# Altium footprint library SMD Active.PcbLib: 72 footprints (part 4 of 8)
Each footprint in its own frame and in the unit in brackets; x right, y up, seen from the top. Pads: shape width x height; smd on the part's side, far side on the other; paste and mask are expansions set on the pad; w line width, h text height; cw(c..) or ccw(c..) is an arc to the next point about the centre after c.
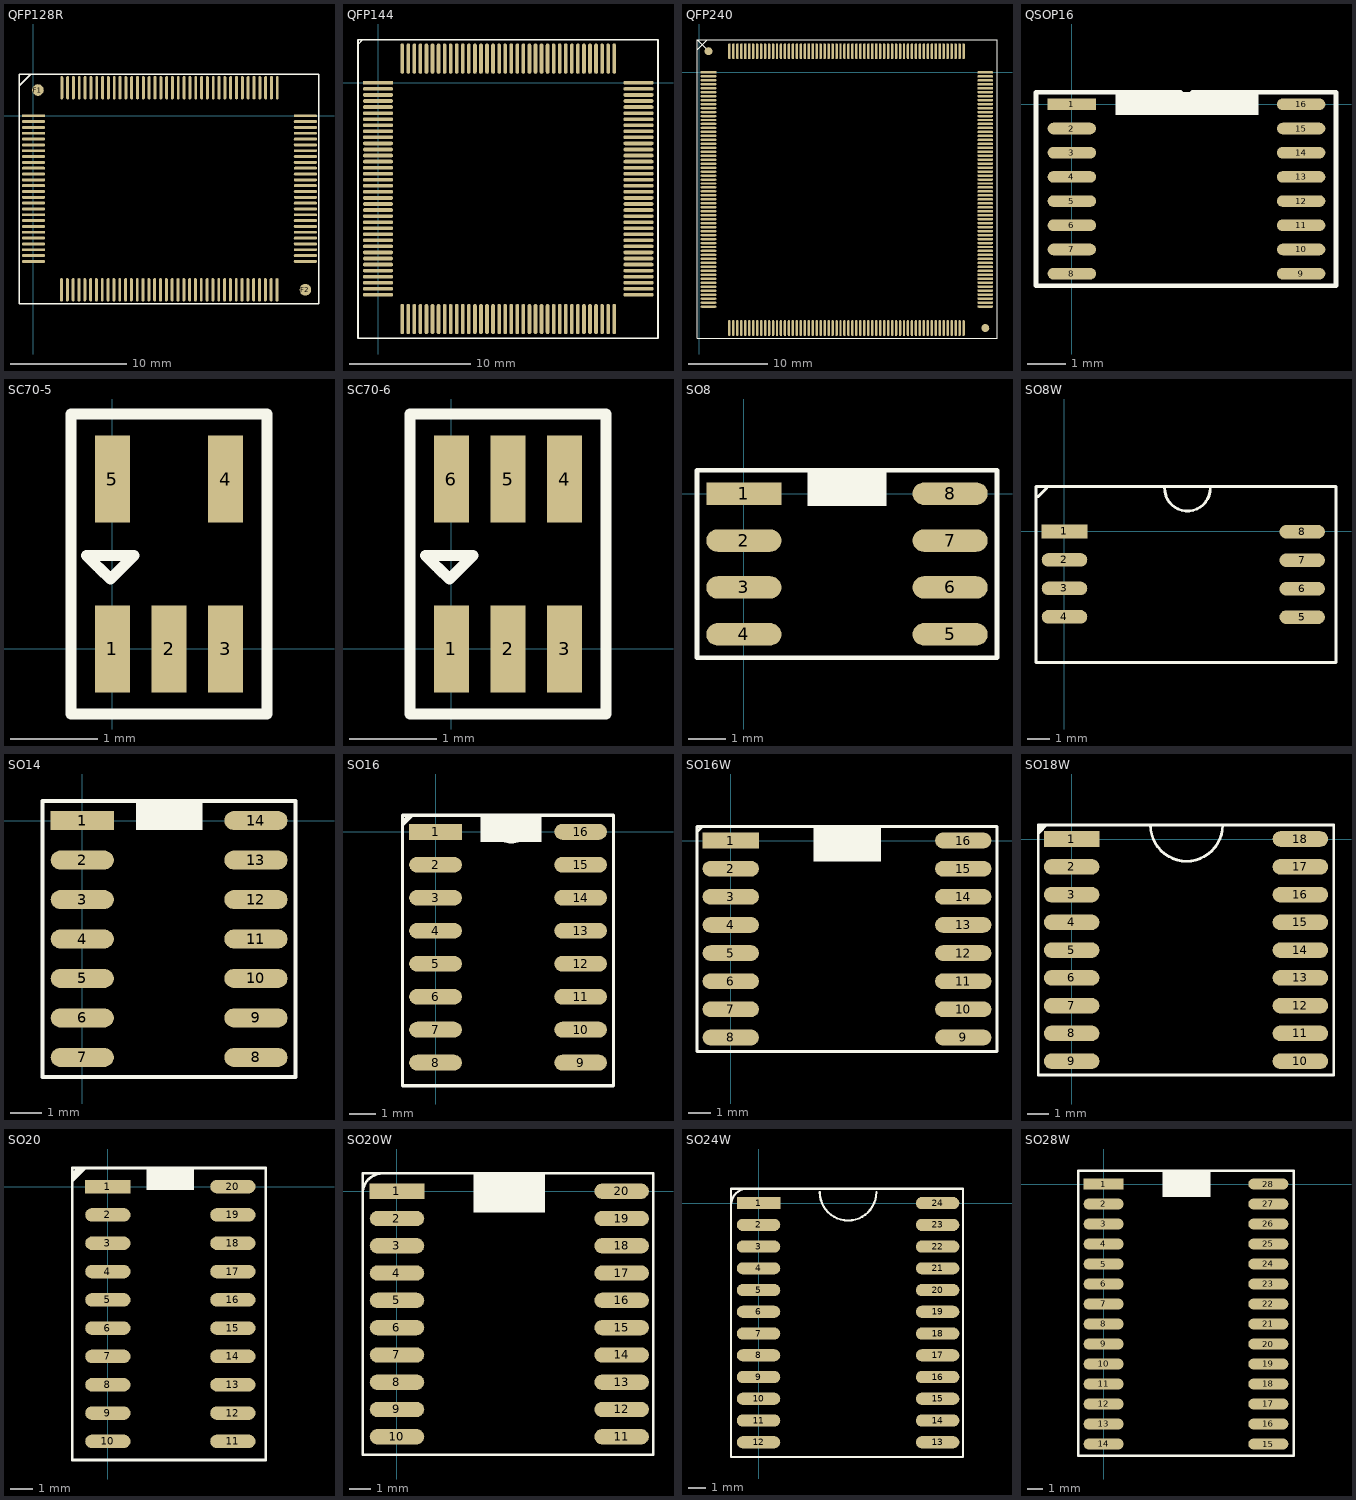
[diagram p3: the footprints below, top view; thin cyan lines are the x and y axes]

## QFP128R [mm]
pads (130):
  rect 2x0.25 smd: 1(0,0)
  oval 2x0.25 smd: 2(0,-0.5) 3(0,-1) 4(0,-1.5) 5(0,-2) 6(0,-2.5) 7(0,-3) 8(0,-3.5) 9(0,-4) 10(0,-4.5) 11(0,-5) 12(0,-5.5) 13(0,-6) 14(0,-6.5) 15(0,-7) 16(0,-7.5) 17(0,-8) 18(0,-8.5) 19(0,-9) 20(0,-9.5) 21(0,-10) 22(0,-10.5) 23(0,-11) 24(0,-11.5) 25(0,-12) 26(0,-12.5) 65(23.343,-12.5) 66(23.343,-12) 67(23.343,-11.5) 68(23.343,-11) 69(23.343,-10.5) 70(23.343,-10) 71(23.343,-9.5) 72(23.343,-9) 73(23.343,-8.5) 74(23.343,-8) 75(23.343,-7.5) 76(23.343,-7) 77(23.343,-6.5) 78(23.343,-6) 79(23.343,-5.5) 80(23.343,-5) 81(23.343,-4.5) 82(23.343,-4) 83(23.343,-3.5) 84(23.343,-3) 85(23.343,-2.5) 86(23.343,-2) 87(23.343,-1.5) 88(23.343,-1) 89(23.343,-0.5) 90(23.343,0)
  oval 0.25x2 smd: 27(2.404,-14.938) 28(2.904,-14.938) 29(3.404,-14.938) 30(3.904,-14.938) 31(4.404,-14.938) 32(4.904,-14.938) 33(5.404,-14.938) 34(5.904,-14.938) 35(6.404,-14.938) 36(6.904,-14.938) 37(7.404,-14.938) 38(7.904,-14.938) 39(8.404,-14.938) 40(8.904,-14.938) 41(9.404,-14.938) 42(9.904,-14.938) 43(10.404,-14.938) 44(10.904,-14.938) 45(11.404,-14.938) 46(11.904,-14.938) 47(12.404,-14.938) 48(12.904,-14.938) 49(13.404,-14.938) 50(13.904,-14.938) 51(14.404,-14.938) 52(14.904,-14.938) 53(15.404,-14.938) 54(15.904,-14.938) 55(16.404,-14.938) 56(16.904,-14.938) 57(17.404,-14.938) 58(17.904,-14.938) 59(18.404,-14.938) 60(18.904,-14.938) 61(19.404,-14.938) 62(19.904,-14.938) 63(20.404,-14.938) 64(20.904,-14.938) 91(20.93,2.41) 92(20.43,2.41) 93(19.93,2.41) 94(19.43,2.41) 95(18.93,2.41) 96(18.43,2.41) 97(17.93,2.41) 98(17.43,2.41) 99(16.93,2.41) 100(16.43,2.41) 101(15.93,2.41) 102(15.43,2.41) 103(14.93,2.41) 104(14.43,2.41) 105(13.93,2.41) 106(13.43,2.41) 107(12.93,2.41) 108(12.43,2.41) 109(11.93,2.41) 110(11.43,2.41) 111(10.93,2.41) 112(10.43,2.41) 113(9.93,2.41) 114(9.43,2.41) 115(8.93,2.41) 116(8.43,2.41) 117(7.93,2.41) 118(7.43,2.41) 119(6.93,2.41) 120(6.43,2.41) 121(5.93,2.41) 122(5.43,2.41) 123(4.93,2.41) 124(4.43,2.41) 125(3.93,2.41) 126(3.43,2.41) 127(2.93,2.41) 128(2.43,2.41)
  round 1 smd: F1(0.381,2.21) F2(23.343,-14.935)
Top Overlay:
  lines w0.127: -1.245,2.565 -0.229,3.581 ; -1.245,-16.154 -1.245,3.581 24.511,3.581 24.511,-16.154 -1.245,-16.154

## QFP144 [mm]
pads (144):
  rect 2.5x0.305 smd: 1(0,0)
  oval 2.5x0.305 smd: 2(0,-0.5) 3(0,-1) 4(0,-1.5) 5(0,-2) 6(0,-2.5) 7(0,-3) 8(0,-3.5) 9(0,-4) 10(0,-4.5) 11(0,-5) 12(0,-5.5) 13(0,-6) 14(0,-6.5) 15(0,-7) 16(0,-7.5) 17(0,-8) 18(0,-8.5) 19(0,-9) 20(0,-9.5) 21(0,-10) 22(0,-10.5) 23(0,-11) 24(0,-11.5) 25(0,-12) 26(0,-12.5) 27(0,-13) 28(0,-13.5) 29(0,-14) 30(0,-14.5) 31(0,-15) 32(0,-15.5) 33(0,-16) 34(0,-16.5) 35(0,-17) 36(0,-17.5) 73(21.5,-17.5) 74(21.5,-17) 75(21.5,-16.5) 76(21.5,-16) 77(21.5,-15.5) 78(21.5,-15) 79(21.5,-14.5) 80(21.5,-14) 81(21.5,-13.5) 82(21.5,-13) 83(21.5,-12.5) 84(21.5,-12) 85(21.5,-11.5) 86(21.5,-11) 87(21.5,-10.5) 88(21.5,-10) 89(21.5,-9.5) 90(21.5,-9) 91(21.5,-8.5) 92(21.5,-8) 93(21.5,-7.5) 94(21.5,-7) 95(21.5,-6.5) 96(21.5,-6) 97(21.5,-5.5) 98(21.5,-5) 99(21.5,-4.5) 100(21.5,-4) 101(21.5,-3.5) 102(21.5,-3) 103(21.5,-2.5) 104(21.5,-2) 105(21.5,-1.5) 106(21.5,-1) 107(21.5,-0.5) 108(21.5,0)
  oval 0.305x2.5 smd: 37(2,-19.5) 38(2.5,-19.5) 39(3,-19.5) 40(3.5,-19.5) 41(4,-19.5) 42(4.5,-19.5) 43(5,-19.5) 44(5.5,-19.5) 45(6,-19.5) 46(6.5,-19.5) 47(7,-19.5) 48(7.5,-19.5) 49(8,-19.5) 50(8.5,-19.5) 51(9,-19.5) 52(9.5,-19.5) 53(10,-19.5) 54(10.5,-19.5) 55(11,-19.5) 56(11.5,-19.5) 57(12,-19.5) 58(12.5,-19.5) 59(13,-19.5) 60(13.5,-19.5) 61(14,-19.5) 62(14.5,-19.5) 63(15,-19.5) 64(15.5,-19.5) 65(16,-19.5) 66(16.5,-19.5) 67(17,-19.5) 68(17.5,-19.5) 69(18,-19.5) 70(18.5,-19.5) 71(19,-19.5) 72(19.5,-19.5) 109(19.5,2) 110(19,2) 111(18.5,2) 112(18,2) 113(17.5,2) 114(17,2) 115(16.5,2) 116(16,2) 117(15.5,2) 118(15,2) 119(14.5,2) 120(14,2) 121(13.5,2) 122(13,2) 123(12.5,2) 124(12,2) 125(11.5,2) 126(11,2) 127(10.5,2) 128(10,2) 129(9.5,2) 130(9,2) 131(8.5,2) 132(8,2) 133(7.5,2) 134(7,2) 135(6.5,2) 136(6,2) 137(5.5,2) 138(5,2) 139(4.5,2) 140(4,2) 141(3.5,2) 142(3,2) 143(2.5,2) 144(2,2)
Top Overlay:
  lines w0.127: -1.651,3.048 -1.651,3.175 ; -1.651,3.175 -1.651,3.556 ; -1.651,3.175 -1.27,3.556 ; -1.651,3.556 23.114,3.556 23.114,-21.082 -1.651,-21.082 -1.651,3.556 ; -1.651,3.556 -1.27,3.556 ; -1.651,3.556 -1.27,3.556

## QFP240 [mm]
pads (242):
  rect 2x0.31 smd: 1(1.168,0)
  oval 2x0.31 smd: 2(1.168,-0.5) 3(1.168,-1) 4(1.168,-1.5) 5(1.168,-2) 6(1.168,-2.5) 7(1.168,-3) 8(1.168,-3.5) 9(1.168,-4) 10(1.168,-4.5) 11(1.168,-5) 12(1.168,-5.5) 13(1.168,-6) 14(1.168,-6.5) 15(1.168,-7) 16(1.168,-7.5) 17(1.168,-8) 18(1.168,-8.5) 19(1.168,-9) 20(1.168,-9.5) 21(1.168,-10) 22(1.168,-10.5) 23(1.168,-11) 24(1.168,-11.5) 25(1.168,-12) 26(1.168,-12.5) 27(1.168,-13) 28(1.168,-13.5) 29(1.168,-14) 30(1.168,-14.5) 31(1.168,-15) 32(1.168,-15.5) 33(1.168,-16) 34(1.168,-16.5) 35(1.168,-17) 36(1.168,-17.5) 37(1.168,-18) 38(1.168,-18.5) 39(1.168,-19) 40(1.168,-19.5) 41(1.168,-20) 42(1.168,-20.5) 43(1.168,-21) 44(1.168,-21.5) 45(1.168,-22) 46(1.168,-22.5) 47(1.168,-23) 48(1.168,-23.5) 49(1.168,-24) 50(1.168,-24.5) 51(1.168,-25) 52(1.168,-25.5) 53(1.168,-26) 54(1.168,-26.5) 55(1.168,-27) 56(1.168,-27.5) 57(1.168,-28) 58(1.168,-28.5) 59(1.168,-29) 60(1.168,-29.5) 121(36.033,-29.5) 122(36.033,-29) 123(36.033,-28.5) 124(36.033,-28) 125(36.033,-27.5) 126(36.033,-27) 127(36.033,-26.5) 128(36.033,-26) 129(36.033,-25.5) 130(36.033,-25) 131(36.033,-24.5) 132(36.033,-24) 133(36.033,-23.5) 134(36.033,-23) 135(36.033,-22.5) 136(36.033,-22) 137(36.033,-21.5) 138(36.033,-21) 139(36.033,-20.5) 140(36.033,-20) 141(36.033,-19.5) 142(36.033,-19) 143(36.033,-18.5) 144(36.033,-18) 145(36.033,-17.5) 146(36.033,-17) 147(36.033,-16.5) 148(36.033,-16) 149(36.033,-15.5) 150(36.033,-15) 151(36.033,-14.5) 152(36.033,-14) 153(36.033,-13.5) 154(36.033,-13) 155(36.033,-12.5) 156(36.033,-12) 157(36.033,-11.5) 158(36.033,-11) 159(36.033,-10.5) 160(36.033,-10) 161(36.033,-9.5) 162(36.033,-9) 163(36.033,-8.5) 164(36.033,-8) 165(36.033,-7.5) 166(36.033,-7) 167(36.033,-6.5) 168(36.033,-6) 169(36.033,-5.5) 170(36.033,-5) 171(36.033,-4.5) 172(36.033,-4) 173(36.033,-3.5) 174(36.033,-3) 175(36.033,-2.5) 176(36.033,-2) 177(36.033,-1.5) 178(36.033,-1) 179(36.033,-0.5) 180(36.033,0)
  oval 0.31x2 smd: 61(3.8,-32.208) 62(4.3,-32.208) 63(4.8,-32.208) 64(5.3,-32.208) 65(5.8,-32.208) 66(6.3,-32.208) 67(6.8,-32.208) 68(7.3,-32.208) 69(7.8,-32.208) 70(8.3,-32.208) 71(8.8,-32.208) 72(9.3,-32.208) 73(9.8,-32.208) 74(10.3,-32.208) 75(10.8,-32.208) 76(11.3,-32.208) 77(11.8,-32.208) 78(12.3,-32.208) 79(12.8,-32.208) 80(13.3,-32.208) 81(13.8,-32.208) 82(14.3,-32.208) 83(14.8,-32.208) 84(15.3,-32.208) 85(15.8,-32.208) 86(16.3,-32.208) 87(16.8,-32.208) 88(17.3,-32.208) 89(17.8,-32.208) 90(18.3,-32.208) 91(18.8,-32.208) 92(19.3,-32.208) 93(19.8,-32.208) 94(20.3,-32.208) 95(20.8,-32.208) 96(21.3,-32.208) 97(21.8,-32.208) 98(22.3,-32.208) 99(22.8,-32.208) 100(23.3,-32.208) 101(23.8,-32.208) 102(24.3,-32.208) 103(24.8,-32.208) 104(25.3,-32.208) 105(25.8,-32.208) 106(26.3,-32.208) 107(26.8,-32.208) 108(27.3,-32.208) 109(27.8,-32.208) 110(28.3,-32.208) 111(28.8,-32.208) 112(29.3,-32.208) 113(29.8,-32.208) 114(30.3,-32.208) 115(30.8,-32.208) 116(31.3,-32.208) 117(31.8,-32.208) 118(32.3,-32.208) 119(32.8,-32.208) 120(33.3,-32.208) 181(33.3,2.657) 182(32.8,2.657) 183(32.3,2.657) 184(31.8,2.657) 185(31.3,2.657) 186(30.8,2.657) 187(30.3,2.657) 188(29.8,2.657) 189(29.3,2.657) 190(28.8,2.657) 191(28.3,2.657) 192(27.8,2.657) 193(27.3,2.657) 194(26.8,2.657) 195(26.3,2.657) 196(25.8,2.657) 197(25.3,2.657) 198(24.8,2.657) 199(24.3,2.657) 200(23.8,2.657) 201(23.3,2.657) 202(22.8,2.657) 203(22.3,2.657) 204(21.8,2.657) 205(21.3,2.657) 206(20.8,2.657) 207(20.3,2.657) 208(19.8,2.657) 209(19.3,2.657) 210(18.8,2.657) 211(18.3,2.657) 212(17.8,2.657) 213(17.3,2.657) 214(16.8,2.657) 215(16.3,2.657) 216(15.8,2.657) 217(15.3,2.657) 218(14.8,2.657) 219(14.3,2.657) 220(13.8,2.657) 221(13.3,2.657) 222(12.8,2.657) 223(12.3,2.657) 224(11.8,2.657) 225(11.3,2.657) 226(10.8,2.657) 227(10.3,2.657) 228(9.8,2.657) 229(9.3,2.657) 230(8.8,2.657) 231(8.3,2.657) 232(7.8,2.657) 233(7.3,2.657) 234(6.8,2.657) 235(6.3,2.657) 236(5.8,2.657) 237(5.3,2.657) 238(4.8,2.657) 239(4.3,2.657) 240(3.8,2.657)
  round 1 smd: F1(1.168,2.667) F2(36.043,-32.207)
Top Overlay:
  lines w0.127: -0.279,2.286 -0.279,2.819 1.016,4.115 ; 1.422,2.413 -0.279,4.115 ; -0.279,4.115 -0.279,-33.503 37.516,-33.503 37.516,4.115 -0.279,4.115

## QSOP16 [mil]
pads (16):
  rect 50x12 smd: 1(0,0)
  oval 50x12 smd: 2(0,-25) 3(0,-50) 4(0,-75) 5(0,-100) 6(0,-125) 7(0,-150) 8(0,-175) 9(237,-175) 10(237,-150) 11(237,-125) 12(237,-100) 13(237,-75) 14(237,-50) 15(237,-25) 16(237,0)
Top Overlay:
  rectangle: 45,-11 193,12.5
  lines w5: 112.25,12.5 -37,12.5 -37,-187.5 273,-187.5 273,12.5 124.75,12.5
3D body: height 12, standoff 0, extent 225,-7 247,5
3D body: height 25, standoff 12, extent 201,-7 233.5,5
3D body: height 12, standoff 0, extent 225,-32 247,-20
3D body: height 25, standoff 12, extent 201,-32 233.5,-20
3D body: height 12, standoff 0, extent 225,-57 247,-45
3D body: height 25, standoff 12, extent 201,-57 233.5,-45
3D body: height 12, standoff 0, extent 225,-82 247,-70
3D body: height 25, standoff 12, extent 201,-82 233.5,-70
3D body: height 12, standoff 0, extent 225,-107 247,-95
3D body: height 25, standoff 12, extent 201,-107 233.5,-95
3D body: height 12, standoff 0, extent 225,-132 247,-120
3D body: height 25, standoff 12, extent 201,-132 233.5,-120
3D body: height 12, standoff 0, extent 225,-157 247,-145
3D body: height 25, standoff 12, extent 201,-157 233.5,-145
3D body: height 12, standoff 0, extent 225,-182 247,-170
3D body: height 25, standoff 12, extent 201,-182 233.5,-170
3D body: height 12, standoff 0, extent -12,-182 10,-170
3D body: height 25, standoff 12, extent 1.5,-182 34,-170
3D body: height 12, standoff 0, extent -12,-157 10,-145
3D body: height 25, standoff 12, extent 1.5,-157 34,-145
3D body: height 12, standoff 0, extent -12,-132 10,-120
3D body: height 25, standoff 12, extent 1.5,-132 34,-120
3D body: height 12, standoff 0, extent -12,-107 10,-95
3D body: height 25, standoff 12, extent 1.5,-107 34,-95
3D body: height 12, standoff 0, extent -12,-82 10,-70
3D body: height 25, standoff 12, extent 1.5,-82 34,-70
3D body: height 12, standoff 0, extent -12,-57 10,-45
3D body: height 25, standoff 12, extent 1.5,-57 34,-45
3D body: height 12, standoff 0, extent -12,-32 10,-20
3D body: height 25, standoff 12, extent 1.5,-32 34,-20
3D body: height 41, standoff 40, extent 78,-15 156,10
3D body: height 25, standoff 12, extent 1.5,-7 34,5
3D body: height 12, standoff 0, extent -12,-7 10,5
3D body: height 40, standoff 0, extent 23.04,-189 211,12

## SC70-5 [mm]
pads (5):
  rect 0.4x1 smd: 1(0,0) 2(0.65,0) 3(1.3,0) 4(1.3,1.95) 5(0,1.95)
Top Overlay:
  lines w0.127: -0.475,-0.175 -0.475,0.975 ; -0.475,2.125 -0.475,0.975 ; -0.15,0.925 -0.025,0.8 ; 1.775,-0.175 1.775,0.975 ; 1.775,2.125 1.775,0.975 ; -0.475,0.975 -0.475,-0.75 0.65,-0.75 1.775,-0.75 1.775,0.975 ; -0.475,0.975 -0.475,2.7 0.65,2.7 1.775,2.7 1.775,0.975 ; -0.025,0.8 -0.025,0.8 ; -0.025,0.8 0.25,1.075 ; -0.025,0.8 -0.3,1.075 0.25,1.075 ; 0.25,1.075 0.25,1.075
3D body: height 1.04, standoff 1.02, extent -0.126,0.584 0.126,0.838
3D body: height 1.02, standoff 0.13, extent -0.483,0.432 1.778,1.524
3D body: height 0.25, standoff 0, extent -0.152,0 0.152,0.254
3D body: height 0.76, standoff 0, extent -0.152,0.203 0.152,0.305
3D body: height 0.76, standoff 0.51, extent -0.152,0.305 0.152,0.432
3D body: height 0.76, standoff 0.51, extent 0.508,0.305 0.813,0.432
3D body: height 0.76, standoff 0, extent 0.508,0.203 0.813,0.305
3D body: height 0.25, standoff 0, extent 0.508,0 0.813,0.254
3D body: height 0.76, standoff 0.51, extent 1.143,0.305 1.448,0.432
3D body: height 0.76, standoff 0, extent 1.143,0.203 1.448,0.305
3D body: height 0.25, standoff 0, extent 1.143,0 1.448,0.254
3D body: height 0.25, standoff 0, extent -0.152,1.702 0.152,1.956
3D body: height 0.76, standoff 0, extent -0.152,1.651 0.152,1.753
3D body: height 0.76, standoff 0.51, extent -0.152,1.524 0.152,1.651
3D body: height 0.76, standoff 0.51, extent 1.143,1.524 1.448,1.651
3D body: height 0.76, standoff 0, extent 1.143,1.651 1.448,1.753
3D body: height 0.25, standoff 0, extent 1.143,1.702 1.448,1.956

## SC70-6 [mm]
pads (6):
  rect 0.4x1 smd: 1(0,0) 2(0.65,0) 3(1.3,0) 4(1.3,1.95) 5(0.65,1.95) 6(0,1.95)
Top Overlay:
  lines w0.127: -0.475,-0.175 -0.475,0.975 ; -0.475,2.125 -0.475,0.975 ; -0.15,0.925 -0.025,0.8 ; 1.775,-0.175 1.775,0.975 ; 1.775,2.125 1.775,0.975 ; -0.475,0.975 -0.475,-0.75 0.65,-0.75 1.775,-0.75 1.775,0.975 ; -0.475,0.975 -0.475,2.7 0.65,2.7 1.775,2.7 1.775,0.975 ; -0.025,0.8 -0.025,0.8 ; -0.025,0.8 0.25,1.075 ; -0.025,0.8 -0.3,1.075 0.25,1.075 ; 0.25,1.075 0.25,1.075
3D body: height 1.04, standoff 1.02, extent -0.126,0.584 0.126,0.838
3D body: height 1.02, standoff 0.13, extent -0.483,0.432 1.778,1.524
3D body: height 0.25, standoff 0, extent -0.152,0 0.152,0.254
3D body: height 0.76, standoff 0, extent -0.152,0.203 0.152,0.305
3D body: height 0.76, standoff 0.51, extent -0.152,0.305 0.152,0.432
3D body: height 0.76, standoff 0.51, extent 0.508,0.305 0.813,0.432
3D body: height 0.76, standoff 0, extent 0.508,0.203 0.813,0.305
3D body: height 0.25, standoff 0, extent 0.508,0 0.813,0.254
3D body: height 0.76, standoff 0.51, extent 1.143,0.305 1.448,0.432
3D body: height 0.76, standoff 0, extent 1.143,0.203 1.448,0.305
3D body: height 0.25, standoff 0, extent 1.143,0 1.448,0.254
3D body: height 0.25, standoff 0, extent -0.152,1.702 0.152,1.956
3D body: height 0.76, standoff 0, extent -0.152,1.651 0.152,1.753
3D body: height 0.76, standoff 0.51, extent -0.152,1.524 0.152,1.651
3D body: height 0.76, standoff 0.51, extent 1.143,1.524 1.448,1.651
3D body: height 0.76, standoff 0, extent 1.143,1.651 1.448,1.753
3D body: height 0.25, standoff 0, extent 1.143,1.702 1.448,1.956
3D body: height 0.25, standoff 0, extent 0.483,1.702 0.787,1.956
3D body: height 0.76, standoff 0, extent 0.483,1.651 0.787,1.753
3D body: height 0.76, standoff 0.51, extent 0.483,1.524 0.787,1.651

## SO8 [mil]
pads (8):
  rect 80x24 smd: 1(0,0)
  oval 80x24 smd: 2(0,-50) 3(0,-100) 4(0,-150) 5(220,-150) 6(220,-100) 7(220,-50) 8(220,0)
Top Overlay:
  rectangle: 68,-13 152,25
  lines w5: -50,-175 270,-175 270,25 -50,25 -50,-175
3D body: height 57, standoff 0, extent -5,-171.5 222.49,21.5

## SO8W [mil]
pads (8):
  rect 80x24 smd: 1(0,0)
  oval 80x24 smd: 2(0,-50) 3(0,-100) 4(0,-150) 5(417.32,-150.59) 6(417.32,-100.59) 7(417.32,-50.59) 8(417.32,-0.59)
Top Overlay:
  lines w5: -46.5,60.79 -31.5,75.79 ; 175.91,75.79 ccw(c215.91,75.79) 255.91,75.79 ; -50,-230.2 476.69,-230.2 476.69,79.13 -50,79.13 -50,-230.2
3D body: height 20, standoff 0, extent -20,-158 7,-143
3D body: height 35, standoff 15, extent -6.5,-158 26,-143
3D body: height 20, standoff 0, extent -20,-108 7,-93
3D body: height 35, standoff 15, extent -6.5,-108 26,-93
3D body: height 20, standoff 0, extent -20,-58 7,-43
3D body: height 35, standoff 15, extent -6.5,-58 26,-43
3D body: height 35, standoff 15, extent -6.5,-8 26,7
3D body: height 20, standoff 0, extent -20,-8 7,7
3D body: height 60, standoff 10, extent 25,-228 392,77
3D body: height 20, standoff 0, extent 410,-158 437,-143
3D body: height 35, standoff 15, extent 391,-158 423.5,-143
3D body: height 35, standoff 15, extent 391,-108 423.5,-93
3D body: height 20, standoff 0, extent 410,-108 437,-93
3D body: height 35, standoff 15, extent 391,-58 423.5,-43
3D body: height 20, standoff 0, extent 410,-58 437,-43
3D body: height 35, standoff 15, extent 391,-8 423.5,7
3D body: height 20, standoff 0, extent 410,-8 437,7

## SO14 [mil]
pads (14):
  rect 80x24 smd: 1(0,0)
  oval 80x24 smd: 2(0,-50) 3(0,-100) 4(0,-150) 5(0,-200) 6(0,-250) 7(0,-300) 8(220,-300) 9(220,-250) 10(220,-200) 11(220,-150) 12(220,-100) 13(220,-50) 14(220,0)
Top Overlay:
  rectangle: 68,-12 152,26
  lines w5: -50.12,-325.02 269.88,-325.02 269.88,24.98 -50.12,24.98 -50.12,-325.02
3D body: height 60, standoff 10, extent 25,-325 195,25
3D body: height 20, standoff 0, extent -20,-8 7,7
3D body: height 35, standoff 15, extent -6.5,-8 26,7
3D body: height 35, standoff 15, extent -6.5,-58 26,-43
3D body: height 20, standoff 0, extent -20,-58 7,-43
3D body: height 35, standoff 15, extent -6.5,-108 26,-93
3D body: height 20, standoff 0, extent -20,-108 7,-93
3D body: height 35, standoff 15, extent -6.5,-158 26,-143
3D body: height 20, standoff 0, extent -20,-158 7,-143
3D body: height 35, standoff 15, extent 194,-157 226.5,-142
3D body: height 20, standoff 0, extent 213,-157 240,-142
3D body: height 35, standoff 15, extent 194,-107 226.5,-92
3D body: height 20, standoff 0, extent 213,-107 240,-92
3D body: height 35, standoff 15, extent 194,-57 226.5,-42
3D body: height 20, standoff 0, extent 213,-57 240,-42
3D body: height 35, standoff 15, extent 194,-7 226.5,8
3D body: height 20, standoff 0, extent 213,-7 240,8
3D body: height 20, standoff 0, extent -20,-208 7,-193
3D body: height 35, standoff 15, extent -6.5,-208 26,-193
3D body: height 35, standoff 15, extent -6.5,-258 26,-243
3D body: height 20, standoff 0, extent -20,-258 7,-243
3D body: height 35, standoff 15, extent -6.5,-308 26,-293
3D body: height 20, standoff 0, extent -20,-308 7,-293
3D body: height 35, standoff 15, extent 194,-307 226.5,-292
3D body: height 20, standoff 0, extent 213,-307 240,-292
3D body: height 35, standoff 15, extent 194,-257 226.5,-242
3D body: height 20, standoff 0, extent 213,-257 240,-242
3D body: height 35, standoff 15, extent 194,-207 226.5,-192
3D body: height 20, standoff 0, extent 213,-207 240,-192
3D body: height 61, standoff 60, extent 36,-9 55.92,10.96
3D body: height 61, standoff 60, extent 68,-12 152,22

## SO16 [mil]
pads (16):
  rect 80x24 smd: 1(0,0)
  oval 80x24 smd: 2(0,-50) 3(0,-100) 4(0,-150) 5(0,-200) 6(0,-250) 7(0,-300) 8(0,-350) 9(220,-350) 10(220,-300) 11(220,-250) 12(220,-200) 13(220,-150) 14(220,-100) 15(220,-50) 16(220,0)
Top Overlay:
  rectangle: 67.91,-15.75 160.43,24.98
  lines w5: -35.12,24.98 -50.12,9.98 -50.12,14.98 -40.12,24.98 -50.12,24.98 ; 74.88,24.98 ccw(c114.88,24.98) 154.88,24.98 ; -50.12,24.98 269.88,24.98 269.88,-385.02 -50.12,-385.02 -50.12,24.98
3D body: height 60, standoff 10, extent 25,-385 195,25
3D body: height 20, standoff 0, extent -20,-8 7,7
3D body: height 35, standoff 15, extent -6.5,-8 26,7
3D body: height 35, standoff 15, extent -6.5,-58 26,-43
3D body: height 20, standoff 0, extent -20,-58 7,-43
3D body: height 35, standoff 15, extent -6.5,-108 26,-93
3D body: height 20, standoff 0, extent -20,-108 7,-93
3D body: height 35, standoff 15, extent -6.5,-158 26,-143
3D body: height 20, standoff 0, extent -20,-158 7,-143
3D body: height 35, standoff 15, extent 194,-157 226.5,-142
3D body: height 20, standoff 0, extent 213,-157 240,-142
3D body: height 35, standoff 15, extent 194,-107 226.5,-92
3D body: height 20, standoff 0, extent 213,-107 240,-92
3D body: height 35, standoff 15, extent 194,-57 226.5,-42
3D body: height 20, standoff 0, extent 213,-57 240,-42
3D body: height 35, standoff 15, extent 194,-7 226.5,8
3D body: height 20, standoff 0, extent 213,-7 240,8
3D body: height 20, standoff 0, extent -20,-208 7,-193
3D body: height 35, standoff 15, extent -6.5,-208 26,-193
3D body: height 35, standoff 15, extent -6.5,-258 26,-243
3D body: height 20, standoff 0, extent -20,-258 7,-243
3D body: height 35, standoff 15, extent -6.5,-308 26,-293
3D body: height 20, standoff 0, extent -20,-308 7,-293
3D body: height 35, standoff 15, extent 194,-307 226.5,-292
3D body: height 20, standoff 0, extent 213,-307 240,-292
3D body: height 35, standoff 15, extent 194,-257 226.5,-242
3D body: height 20, standoff 0, extent 213,-257 240,-242
3D body: height 35, standoff 15, extent 194,-207 226.5,-192
3D body: height 20, standoff 0, extent 213,-207 240,-192
3D body: height 61, standoff 60, extent 36,-9 55.92,10.96
3D body: height 61, standoff 60, extent 68,-12 152,22
3D body: height 20, standoff 0, extent 213,-357 240,-342
3D body: height 35, standoff 15, extent 194,-357 226.5,-342
3D body: height 20, standoff 0, extent -20,-358 7,-343
3D body: height 35, standoff 15, extent -6.5,-358 26,-343

## SO16W [mil]
pads (16):
  rect 100x28 smd: 1(0,0)
  oval 100x28 smd: 2(0,-50) 3(0,-100) 4(0,-150) 5(0,-200) 6(0,-250) 7(0,-300) 8(0,-350) 9(413,-350) 10(413,-300) 11(413,-250) 12(413,-200) 13(413,-150) 14(413,-100) 15(413,-50) 16(413,0)
Top Overlay:
  rectangle: 146.65,-37.4 266.73,25
  lines w5: -60,15 -50,25 -60,25 ; -60,25 473,25 473,-375 -60,-375 -60,25
3D body: height 35, standoff 15, extent 18.5,-358 51,-343
3D body: height 20, standoff 0, extent 5,-358 32,-343
3D body: height 35, standoff 15, extent 361,-357 393.5,-342
3D body: height 20, standoff 0, extent 380,-357 407,-342
3D body: height 61, standoff 60, extent 140,-39 271,27
3D body: height 61, standoff 60, extent 68.08,-10.98 88,8.98
3D body: height 20, standoff 0, extent 380,-207 407,-192
3D body: height 35, standoff 15, extent 361,-207 393.5,-192
3D body: height 20, standoff 0, extent 380,-257 407,-242
3D body: height 35, standoff 15, extent 361,-257 393.5,-242
3D body: height 20, standoff 0, extent 380,-307 407,-292
3D body: height 35, standoff 15, extent 361,-307 393.5,-292
3D body: height 20, standoff 0, extent 5,-308 32,-293
3D body: height 35, standoff 15, extent 18.5,-308 51,-293
3D body: height 20, standoff 0, extent 5,-258 32,-243
3D body: height 35, standoff 15, extent 18.5,-258 51,-243
3D body: height 35, standoff 15, extent 18.5,-208 51,-193
3D body: height 20, standoff 0, extent 5,-208 32,-193
3D body: height 20, standoff 0, extent 380,-7 407,8
3D body: height 35, standoff 15, extent 361,-7 393.5,8
3D body: height 20, standoff 0, extent 380,-57 407,-42
3D body: height 35, standoff 15, extent 361,-57 393.5,-42
3D body: height 20, standoff 0, extent 380,-107 407,-92
3D body: height 35, standoff 15, extent 361,-107 393.5,-92
3D body: height 20, standoff 0, extent 380,-157 407,-142
3D body: height 35, standoff 15, extent 361,-157 393.5,-142
3D body: height 20, standoff 0, extent 5,-158 32,-143
3D body: height 35, standoff 15, extent 18.5,-158 51,-143
3D body: height 20, standoff 0, extent 5,-108 32,-93
3D body: height 35, standoff 15, extent 18.5,-108 51,-93
3D body: height 20, standoff 0, extent 5,-58 32,-43
3D body: height 35, standoff 15, extent 18.5,-58 51,-43
3D body: height 35, standoff 15, extent 18.5,-8 51,7
3D body: height 20, standoff 0, extent 5,-8 32,7
3D body: height 60, standoff 10, extent 50,-375 362,25

## SO18W [mil]
pads (18):
  rect 100x28 smd: 1(0,0)
  oval 100x28 smd: 2(0,-50) 3(0,-100) 4(0,-150) 5(0,-200) 6(0,-250) 7(0,-300) 8(0,-350) 9(0,-400) 10(412,-400) 11(412,-350) 12(412,-300) 13(412,-250) 14(412,-200) 15(412,-150) 16(412,-100) 17(412,-50) 18(412,0)
Top Overlay:
  lines w5: -52.47,17.53 -59.93,25 -60,25 ; -50,25 -60,15 -60,25 ; 142,25 ccw(c207,25) 272,25 ; -60,25 472,25 472,-425 -60,-425 -60,25 ; -60,25 -60,10 -45,25 -60,25
3D body: height 20, standoff 0, extent 380,-406.5 407,-391.5
3D body: height 35, standoff 15, extent 361,-406.5 393.5,-391.5
3D body: height 20, standoff 0, extent 5,-407.5 32,-392.5
3D body: height 35, standoff 15, extent 18.5,-407.5 51,-392.5
3D body: height 35, standoff 15, extent 18.5,-358.5 51,-343.5
3D body: height 20, standoff 0, extent 5,-358.5 32,-343.5
3D body: height 35, standoff 15, extent 361,-357.5 393.5,-342.5
3D body: height 20, standoff 0, extent 380,-357.5 407,-342.5
3D body: height 61, standoff 60, extent 140,-39.5 271,26.5
3D body: height 61, standoff 60, extent 68.08,-11.48 88,8.48
3D body: height 20, standoff 0, extent 380,-207.5 407,-192.5
3D body: height 35, standoff 15, extent 361,-207.5 393.5,-192.5
3D body: height 20, standoff 0, extent 380,-257.5 407,-242.5
3D body: height 35, standoff 15, extent 361,-257.5 393.5,-242.5
3D body: height 20, standoff 0, extent 380,-307.5 407,-292.5
3D body: height 35, standoff 15, extent 361,-307.5 393.5,-292.5
3D body: height 20, standoff 0, extent 5,-308.5 32,-293.5
3D body: height 35, standoff 15, extent 18.5,-308.5 51,-293.5
3D body: height 20, standoff 0, extent 5,-258.5 32,-243.5
3D body: height 35, standoff 15, extent 18.5,-258.5 51,-243.5
3D body: height 35, standoff 15, extent 18.5,-208.5 51,-193.5
3D body: height 20, standoff 0, extent 5,-208.5 32,-193.5
3D body: height 20, standoff 0, extent 380,-7.5 407,7.5
3D body: height 35, standoff 15, extent 361,-7.5 393.5,7.5
3D body: height 20, standoff 0, extent 380,-57.5 407,-42.5
3D body: height 35, standoff 15, extent 361,-57.5 393.5,-42.5
3D body: height 20, standoff 0, extent 380,-107.5 407,-92.5
3D body: height 35, standoff 15, extent 361,-107.5 393.5,-92.5
3D body: height 20, standoff 0, extent 380,-157.5 407,-142.5
3D body: height 35, standoff 15, extent 361,-157.5 393.5,-142.5
3D body: height 20, standoff 0, extent 5,-158.5 32,-143.5
3D body: height 35, standoff 15, extent 18.5,-158.5 51,-143.5
3D body: height 20, standoff 0, extent 5,-108.5 32,-93.5
3D body: height 35, standoff 15, extent 18.5,-108.5 51,-93.5
3D body: height 20, standoff 0, extent 5,-58.5 32,-43.5
3D body: height 35, standoff 15, extent 18.5,-58.5 51,-43.5
3D body: height 35, standoff 15, extent 18.5,-8.5 51,6.5
3D body: height 20, standoff 0, extent 5,-8.5 32,6.5
3D body: height 60, standoff 10, extent 50,-425 362,24.5

## SO20 [mil]
pads (20):
  rect 80x24 smd: 1(0,0)
  oval 80x24 smd: 2(0,-50) 3(0,-100) 4(0,-150) 5(0,-200) 6(0,-250) 7(0,-300) 8(0,-350) 9(0,-400) 10(0,-450) 11(220.81,-450) 12(220.81,-400) 13(220.81,-350) 14(220.81,-300) 15(220.81,-250) 16(220.81,-200) 17(220.81,-150) 18(220.81,-100) 19(220.81,-50) 20(220.81,0)
Top Overlay:
  rectangle: 68,-6 152,33
  lines w5: -63,-20 -63,-4 ; -40,33 -63,10 -63,14 -45,32 -45,33 -48,33 -63,18 -63,22 -52,33 ; -63,33 279,33 279,-483 -63,-483 -63,33 ; -63,33 -52,33 ; -63,33 -52,33
3D body: height 20, standoff 0, extent 213,-457 240,-442
3D body: height 35, standoff 15, extent 194,-457 226.5,-442
3D body: height 20, standoff 0, extent -20,-458 7,-443
3D body: height 35, standoff 15, extent -6.5,-458 26,-443
3D body: height 20, standoff 0, extent 213,-407 240,-392
3D body: height 35, standoff 15, extent 194,-407 226.5,-392
3D body: height 20, standoff 0, extent -20,-408 7,-393
3D body: height 35, standoff 15, extent -6.5,-408 26,-393
3D body: height 35, standoff 15, extent -6.5,-358 26,-343
3D body: height 20, standoff 0, extent -20,-358 7,-343
3D body: height 35, standoff 15, extent 194,-357 226.5,-342
3D body: height 20, standoff 0, extent 213,-357 240,-342
3D body: height 61, standoff 60, extent 68,-6 152,28
3D body: height 61, standoff 60, extent 36,-3 55.92,16.96
3D body: height 20, standoff 0, extent 213,-207 240,-192
3D body: height 35, standoff 15, extent 194,-207 226.5,-192
3D body: height 20, standoff 0, extent 213,-257 240,-242
3D body: height 35, standoff 15, extent 194,-257 226.5,-242
3D body: height 20, standoff 0, extent 213,-307 240,-292
3D body: height 35, standoff 15, extent 194,-307 226.5,-292
3D body: height 20, standoff 0, extent -20,-308 7,-293
3D body: height 35, standoff 15, extent -6.5,-308 26,-293
3D body: height 20, standoff 0, extent -20,-258 7,-243
3D body: height 35, standoff 15, extent -6.5,-258 26,-243
3D body: height 35, standoff 15, extent -6.5,-208 26,-193
3D body: height 20, standoff 0, extent -20,-208 7,-193
3D body: height 20, standoff 0, extent 213,-7 240,8
3D body: height 35, standoff 15, extent 194,-7 226.5,8
3D body: height 20, standoff 0, extent 213,-57 240,-42
3D body: height 35, standoff 15, extent 194,-57 226.5,-42
3D body: height 20, standoff 0, extent 213,-107 240,-92
3D body: height 35, standoff 15, extent 194,-107 226.5,-92
3D body: height 20, standoff 0, extent 213,-157 240,-142
3D body: height 35, standoff 15, extent 194,-157 226.5,-142
3D body: height 20, standoff 0, extent -20,-158 7,-143
3D body: height 35, standoff 15, extent -6.5,-158 26,-143
3D body: height 20, standoff 0, extent -20,-108 7,-93
3D body: height 35, standoff 15, extent -6.5,-108 26,-93
3D body: height 20, standoff 0, extent -20,-58 7,-43
3D body: height 35, standoff 15, extent -6.5,-58 26,-43
3D body: height 35, standoff 15, extent -6.5,-8 26,7
3D body: height 20, standoff 0, extent -20,-8 7,7
3D body: height 60, standoff 10, extent 25,-483 195,33

## SO20W [mil]
pads (20):
  rect 100x28 smd: 1(0,0)
  oval 100x28 smd: 2(0,-50) 3(0,-100) 4(0,-150) 5(0,-200) 6(0,-250) 7(0,-300) 8(0,-350) 9(0,-400) 10(0,-450) 11(411.81,-450) 12(411.81,-400) 13(411.81,-350) 14(411.81,-300) 15(411.81,-250) 16(411.81,-200) 17(411.81,-150) 18(411.81,-100) 19(411.81,-50) 20(411.81,0)
Top Overlay:
  rectangle: 140,-39 271,33
  lines w5: -63,-20 -63,-4 cw(c-26,-4) -26,33 ; -63,-483 470,-483 470,33 -63,33 -63,-483
3D body: height 20, standoff 0, extent 380,-457 407,-442
3D body: height 35, standoff 15, extent 361,-457 393.5,-442
3D body: height 20, standoff 0, extent 5,-458 32,-443
3D body: height 35, standoff 15, extent 18.5,-458 51,-443
3D body: height 20, standoff 0, extent 380,-407 407,-392
3D body: height 35, standoff 15, extent 361,-407 393.5,-392
3D body: height 20, standoff 0, extent 5,-408 32,-393
3D body: height 35, standoff 15, extent 18.5,-408 51,-393
3D body: height 35, standoff 15, extent 18.5,-358 51,-343
3D body: height 20, standoff 0, extent 5,-358 32,-343
3D body: height 35, standoff 15, extent 361,-357 393.5,-342
3D body: height 20, standoff 0, extent 380,-357 407,-342
3D body: height 61, standoff 60, extent 140,-39 271,27
3D body: height 61, standoff 60, extent 68.08,-10.98 88,8.98
3D body: height 20, standoff 0, extent 380,-207 407,-192
3D body: height 35, standoff 15, extent 361,-207 393.5,-192
3D body: height 20, standoff 0, extent 380,-257 407,-242
3D body: height 35, standoff 15, extent 361,-257 393.5,-242
3D body: height 20, standoff 0, extent 380,-307 407,-292
3D body: height 35, standoff 15, extent 361,-307 393.5,-292
3D body: height 20, standoff 0, extent 5,-308 32,-293
3D body: height 35, standoff 15, extent 18.5,-308 51,-293
3D body: height 20, standoff 0, extent 5,-258 32,-243
3D body: height 35, standoff 15, extent 18.5,-258 51,-243
3D body: height 35, standoff 15, extent 18.5,-208 51,-193
3D body: height 20, standoff 0, extent 5,-208 32,-193
3D body: height 20, standoff 0, extent 380,-7 407,8
3D body: height 35, standoff 15, extent 361,-7 393.5,8
3D body: height 20, standoff 0, extent 380,-57 407,-42
3D body: height 35, standoff 15, extent 361,-57 393.5,-42
3D body: height 20, standoff 0, extent 380,-107 407,-92
3D body: height 35, standoff 15, extent 361,-107 393.5,-92
3D body: height 20, standoff 0, extent 380,-157 407,-142
3D body: height 35, standoff 15, extent 361,-157 393.5,-142
3D body: height 20, standoff 0, extent 5,-158 32,-143
3D body: height 35, standoff 15, extent 18.5,-158 51,-143
3D body: height 20, standoff 0, extent 5,-108 32,-93
3D body: height 35, standoff 15, extent 18.5,-108 51,-93
3D body: height 20, standoff 0, extent 5,-58 32,-43
3D body: height 35, standoff 15, extent 18.5,-58 51,-43
3D body: height 35, standoff 15, extent 18.5,-8 51,7
3D body: height 20, standoff 0, extent 5,-8 32,7
3D body: height 60, standoff 10, extent 50,-483 362,33

## SO24W [mil]
pads (24):
  rect 100x28 smd: 1(0,0)
  oval 100x28 smd: 2(0,-50) 3(0,-100) 4(0,-150) 5(0,-200) 6(0,-250) 7(0,-300) 8(0,-350) 9(0,-400) 10(0,-450) 11(0,-500) 12(0,-550) 13(411.81,-550) 14(411.81,-500) 15(411.81,-450) 16(411.81,-400) 17(411.81,-350) 18(411.81,-300) 19(411.81,-250) 20(411.81,-200) 21(411.81,-150) 22(411.81,-100) 23(411.81,-50) 24(411.81,0)
Top Overlay:
  lines w5: -63,-20 -63,-4 cw(c-26,-4) -26,33 ; 141,25 ccw(c206,25) 271,25 ; -63,-584 470,-584 470,33 -63,33 -63,-584
3D body: height 20, standoff 0, extent 377,-456 404,-441
3D body: height 35, standoff 15, extent 358,-456 390.5,-441
3D body: height 20, standoff 0, extent 2,-457 29,-442
3D body: height 35, standoff 15, extent 15.5,-457 48,-442
3D body: height 20, standoff 0, extent 377,-406 404,-391
3D body: height 35, standoff 15, extent 358,-406 390.5,-391
3D body: height 20, standoff 0, extent 2,-407 29,-392
3D body: height 35, standoff 15, extent 15.5,-407 48,-392
3D body: height 35, standoff 15, extent 15.5,-357 48,-342
3D body: height 20, standoff 0, extent 2,-357 29,-342
3D body: height 35, standoff 15, extent 358,-356 390.5,-341
3D body: height 20, standoff 0, extent 377,-356 404,-341
3D body: height 61, standoff 60, extent 137,-38 268,28
3D body: height 61, standoff 60, extent 65.08,-9.98 85,9.98
3D body: height 20, standoff 0, extent 377,-206 404,-191
3D body: height 35, standoff 15, extent 358,-206 390.5,-191
3D body: height 20, standoff 0, extent 377,-256 404,-241
3D body: height 35, standoff 15, extent 358,-256 390.5,-241
3D body: height 20, standoff 0, extent 377,-306 404,-291
3D body: height 35, standoff 15, extent 358,-306 390.5,-291
3D body: height 20, standoff 0, extent 2,-307 29,-292
3D body: height 35, standoff 15, extent 15.5,-307 48,-292
3D body: height 20, standoff 0, extent 2,-257 29,-242
3D body: height 35, standoff 15, extent 15.5,-257 48,-242
3D body: height 35, standoff 15, extent 15.5,-207 48,-192
3D body: height 20, standoff 0, extent 2,-207 29,-192
3D body: height 20, standoff 0, extent 377,-6 404,9
3D body: height 35, standoff 15, extent 358,-6 390.5,9
3D body: height 20, standoff 0, extent 377,-56 404,-41
3D body: height 35, standoff 15, extent 358,-56 390.5,-41
3D body: height 20, standoff 0, extent 377,-106 404,-91
3D body: height 35, standoff 15, extent 358,-106 390.5,-91
3D body: height 20, standoff 0, extent 377,-156 404,-141
3D body: height 35, standoff 15, extent 358,-156 390.5,-141
3D body: height 20, standoff 0, extent 2,-157 29,-142
3D body: height 35, standoff 15, extent 15.5,-157 48,-142
3D body: height 20, standoff 0, extent 2,-107 29,-92
3D body: height 35, standoff 15, extent 15.5,-107 48,-92
3D body: height 20, standoff 0, extent 2,-57 29,-42
3D body: height 35, standoff 15, extent 15.5,-57 48,-42
3D body: height 35, standoff 15, extent 15.5,-7 48,8
3D body: height 20, standoff 0, extent 2,-7 29,8
3D body: height 60, standoff 10, extent 47,-583 359,34
3D body: height 35, standoff 15, extent 12.5,-509 45,-494
3D body: height 20, standoff 0, extent -1,-509 26,-494
3D body: height 35, standoff 15, extent 355,-508 387.5,-493
3D body: height 20, standoff 0, extent 374,-508 401,-493
3D body: height 35, standoff 15, extent 12.5,-559 45,-544
3D body: height 20, standoff 0, extent -1,-559 26,-544
3D body: height 35, standoff 15, extent 355,-558 387.5,-543
3D body: height 20, standoff 0, extent 374,-558 401,-543

## SO28W [mil]
pads (28):
  rect 100x28 smd: 1(0,0)
  oval 100x28 smd: 2(0,-50) 3(0,-100) 4(0,-150) 5(0,-200) 6(0,-250) 7(0,-300) 8(0,-350) 9(0,-400) 10(0,-450) 11(0,-500) 12(0,-550) 13(0,-600) 14(0,-650) 15(411.81,-650) 16(411.81,-600) 17(411.81,-550) 18(411.81,-500) 19(411.81,-450) 20(411.81,-400) 21(411.81,-350) 22(411.81,-300) 23(411.81,-250) 24(411.81,-200) 25(411.81,-150) 26(411.81,-100) 27(411.81,-50) 28(411.81,0)
Top Overlay:
  rectangle: 146.65,-32.4 266.73,30
  lines w6: -63,-20 -63,-4 ; -63,-679 -63,33 475,33 475,-679 -63,-679
3D body: height 35, standoff 15, extent 18.5,-558 51,-543
3D body: height 20, standoff 0, extent 5,-558 32,-543
3D body: height 35, standoff 15, extent 361,-557 393.5,-542
3D body: height 20, standoff 0, extent 380,-557 407,-542
3D body: height 20, standoff 0, extent 380,-507 407,-492
3D body: height 35, standoff 15, extent 361,-507 393.5,-492
3D body: height 20, standoff 0, extent 5,-508 32,-493
3D body: height 35, standoff 15, extent 18.5,-508 51,-493
3D body: height 35, standoff 15, extent 18.5,-408 51,-393
3D body: height 20, standoff 0, extent 5,-408 32,-393
3D body: height 35, standoff 15, extent 361,-407 393.5,-392
3D body: height 20, standoff 0, extent 380,-407 407,-392
3D body: height 35, standoff 15, extent 18.5,-358 51,-343
3D body: height 20, standoff 0, extent 5,-358 32,-343
3D body: height 35, standoff 15, extent 361,-357 393.5,-342
3D body: height 20, standoff 0, extent 380,-357 407,-342
3D body: height 61, standoff 60, extent 140,-39 271,27
3D body: height 61, standoff 60, extent 68.08,-10.98 88,8.98
3D body: height 20, standoff 0, extent 380,-207 407,-192
3D body: height 35, standoff 15, extent 361,-207 393.5,-192
3D body: height 20, standoff 0, extent 380,-257 407,-242
3D body: height 35, standoff 15, extent 361,-257 393.5,-242
3D body: height 20, standoff 0, extent 380,-307 407,-292
3D body: height 35, standoff 15, extent 361,-307 393.5,-292
3D body: height 20, standoff 0, extent 5,-308 32,-293
3D body: height 35, standoff 15, extent 18.5,-308 51,-293
3D body: height 20, standoff 0, extent 5,-258 32,-243
3D body: height 35, standoff 15, extent 18.5,-258 51,-243
3D body: height 35, standoff 15, extent 18.5,-208 51,-193
3D body: height 20, standoff 0, extent 5,-208 32,-193
3D body: height 20, standoff 0, extent 380,-7 407,8
3D body: height 35, standoff 15, extent 361,-7 393.5,8
3D body: height 20, standoff 0, extent 380,-57 407,-42
3D body: height 35, standoff 15, extent 361,-57 393.5,-42
3D body: height 20, standoff 0, extent 380,-107 407,-92
3D body: height 35, standoff 15, extent 361,-107 393.5,-92
3D body: height 20, standoff 0, extent 380,-157 407,-142
3D body: height 35, standoff 15, extent 361,-157 393.5,-142
3D body: height 20, standoff 0, extent 5,-158 32,-143
3D body: height 35, standoff 15, extent 18.5,-158 51,-143
3D body: height 20, standoff 0, extent 5,-108 32,-93
3D body: height 35, standoff 15, extent 18.5,-108 51,-93
3D body: height 20, standoff 0, extent 5,-58 32,-43
3D body: height 35, standoff 15, extent 18.5,-58 51,-43
3D body: height 35, standoff 15, extent 18.5,-8 51,7
3D body: height 20, standoff 0, extent 5,-8 32,7
3D body: height 60, standoff 10, extent 50,-675 362,25
3D body: height 20, standoff 0, extent 380,-457 407,-442
3D body: height 35, standoff 15, extent 361,-457 393.5,-442
3D body: height 20, standoff 0, extent 5,-458 32,-443
3D body: height 35, standoff 15, extent 18.5,-458 51,-443
3D body: height 35, standoff 15, extent 18.5,-608 51,-593
3D body: height 20, standoff 0, extent 5,-608 32,-593
3D body: height 35, standoff 15, extent 361,-607 393.5,-592
3D body: height 20, standoff 0, extent 380,-607 407,-592
3D body: height 20, standoff 0, extent 380,-657 407,-642
3D body: height 35, standoff 15, extent 361,-657 393.5,-642
3D body: height 20, standoff 0, extent 5,-658 32,-643
3D body: height 35, standoff 15, extent 18.5,-658 51,-643